# EAGLE library part 13P/ISO_KFZSTECKER (library ISO11446)
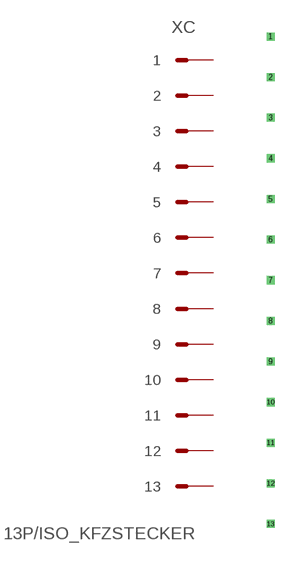
[diagram p1: symbol with the pads of 13P/ISO_KFZSTECKER; footprint 13P/ISO_KFZSTECKER]

Designator prefix XC

## 13P/ISO_KFZSTECKER  [13P/ISO_KFZSTECKER]
1  1  pas
2  2  pas
3  3  pas
4  4  pas
5  5  pas
6  6  pas
7  7  pas
8  8  pas
9  9  pas
10  10  pas
11  11  pas
12  12  pas
13  13  pas

## Footprint 13P/ISO_KFZSTECKER (pad centres in mm)
Dummy
drill 0.5 pad 1 square: 1 5.08,22.86; 2 5.08,17.78; 3 5.08,12.7; 4 5.08,7.62; 5 5.08,2.54; 6 5.08,-2.54; 7 5.08,-7.62; 8 5.08,-12.7; 9 5.08,-17.78; 10 5.08,-22.86; 11 5.08,-27.94; 12 5.08,-33.02; 13 5.08,-38.1